# Altium footprint library 2.54-PLCC插槽封装.PcbLib: 85 footprints (part 1 of 6)
Each footprint in its own frame and in the unit in brackets; x right, y up, seen from the top. Pads: shape width x height; smd on the part's side, far side on the other; paste and mask are expansions set on the pad; w line width, h text height; cw(c..) or ccw(c..) is an arc to the next point about the centre after c.
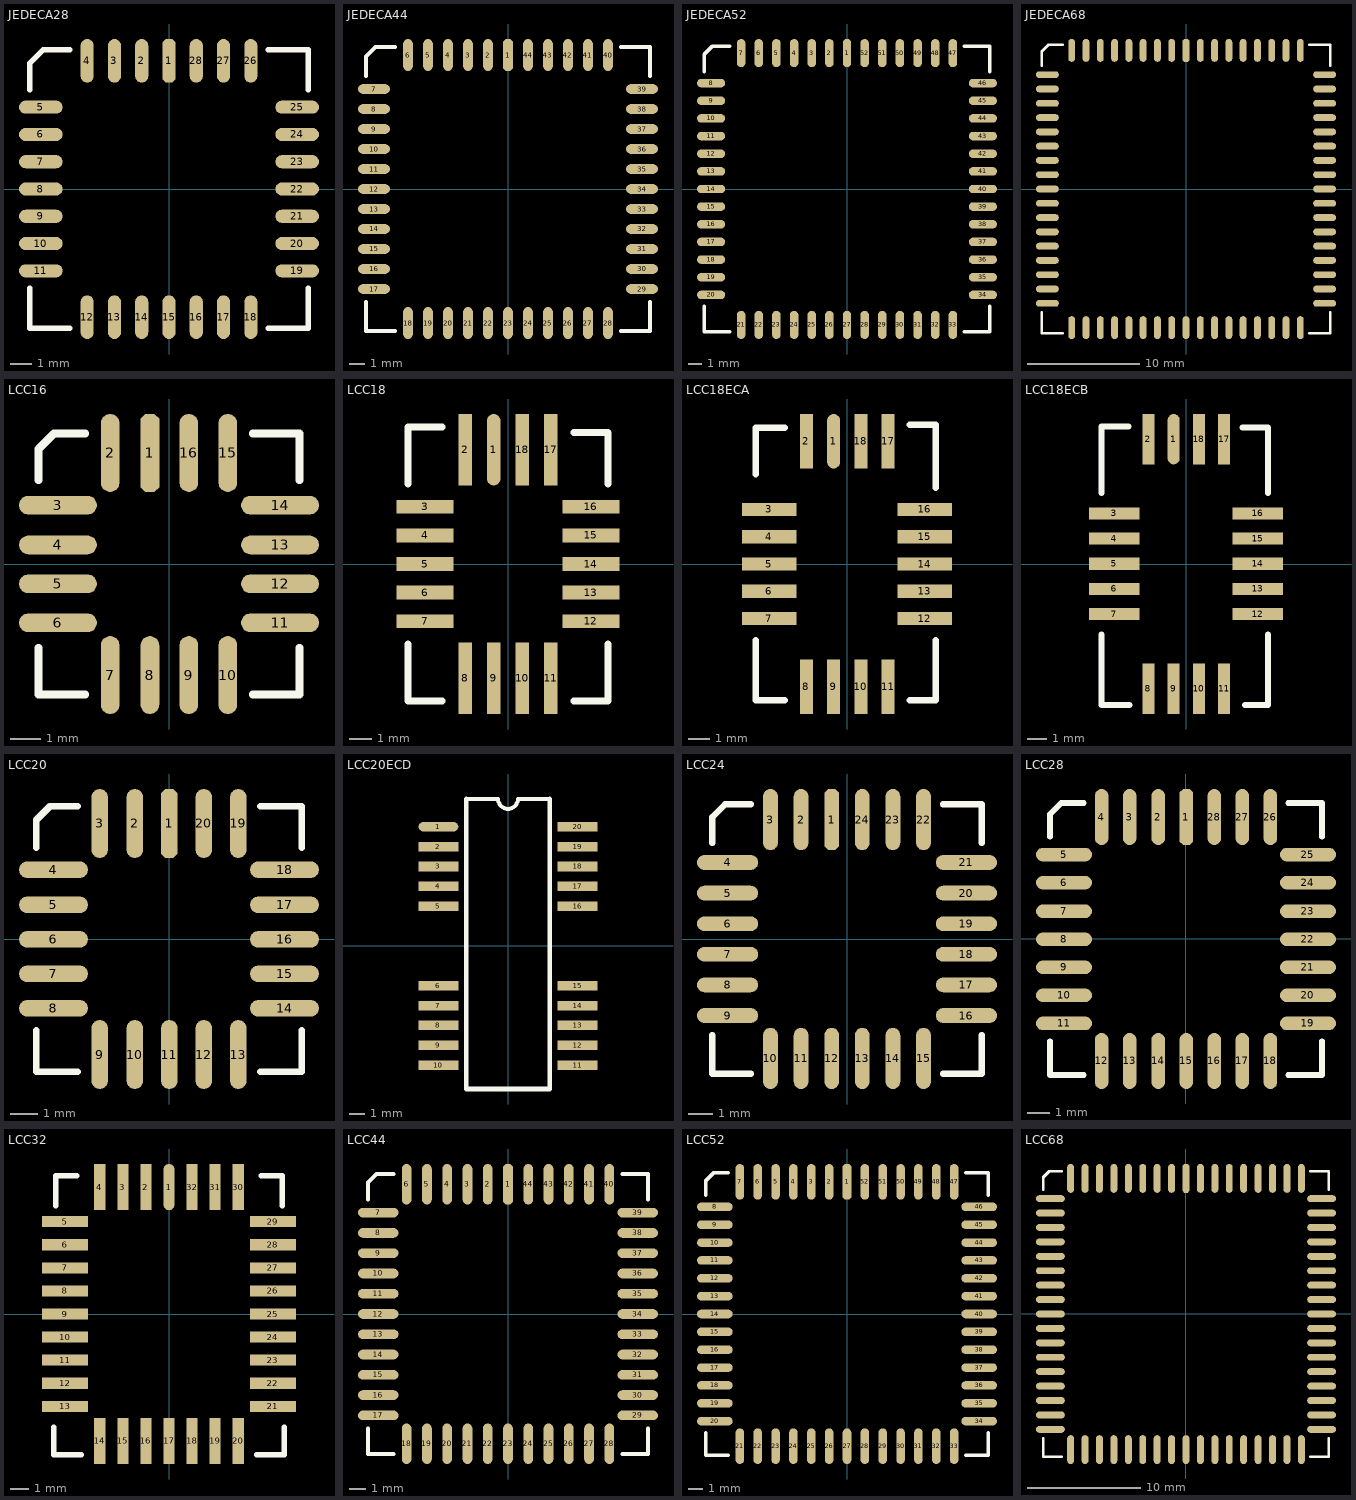
[diagram p0: the footprints below, top view; thin cyan lines are the x and y axes]

## JEDECA28 [mil]
pads (28):
  oct 24x80 smd: 1(0,235)
  oval 24x80 smd: 2(-50,235) 3(-100,235) 4(-150,235) 12(-150,-235) 13(-100,-235) 14(-50,-235) 15(0,-235) 16(50,-235) 17(100,-235) 18(150,-235) 26(150,235) 27(100,235) 28(50,235)
  oval 80x24 smd: 5(-235,150) 6(-235,100) 7(-235,50) 8(-235,0) 9(-235,-50) 10(-235,-100) 11(-235,-150) 19(235,-150) 20(235,-100) 21(235,-50) 22(235,0) 23(235,50) 24(235,100) 25(235,150)
Top Overlay:
  lines w10: -255,-182 -255,-255 -182,-255 ; -255,182 -255,231 -231,255 -182,255 ; 182,-255 255,-255 255,-182 ; 182,255 255,255 255,182

## JEDECA44 [mil]
pads (44):
  oct 24x80 smd: 1(0,335)
  oval 24x80 smd: 2(-50,335) 3(-100,335) 4(-150,335) 5(-200,335) 6(-250,335) 18(-250,-335) 19(-200,-335) 20(-150,-335) 21(-100,-335) 22(-50,-335) 23(0,-335) 24(50,-335) 25(100,-335) 26(150,-335) 27(200,-335) 28(250,-335) 40(250,335) 41(200,335) 42(150,335) 43(100,335) 44(50,335)
  oval 80x24 smd: 7(-335,250) 8(-335,200) 9(-335,150) 10(-335,100) 11(-335,50) 12(-335,0) 13(-335,-50) 14(-335,-100) 15(-335,-150) 16(-335,-200) 17(-335,-250) 29(335,-250) 30(335,-200) 31(335,-150) 32(335,-100) 33(335,-50) 34(335,0) 35(335,50) 36(335,100) 37(335,150) 38(335,200) 39(335,250)
Top Overlay:
  lines w10: -355,-282 -355,-355 -282,-355 ; -355,282 -355,331 -331,355 -282,355 ; 282,-355 355,-355 355,-282 ; 282,355 355,355 355,282

## JEDECA52 [mil]
pads (52):
  oct 24x80 smd: 1(0,385)
  oval 24x80 smd: 2(-50,385) 3(-100,385) 4(-150,385) 5(-200,385) 6(-250,385) 7(-300,385) 21(-300,-385) 22(-250,-385) 23(-200,-385) 24(-150,-385) 25(-100,-385) 26(-50,-385) 27(0,-385) 28(50,-385) 29(100,-385) 30(150,-385) 31(200,-385) 32(250,-385) 33(300,-385) 47(300,385) 48(250,385) 49(200,385) 50(150,385) 51(100,385) 52(50,385)
  oval 80x24 smd: 8(-385,300) 9(-385,250) 10(-385,200) 11(-385,150) 12(-385,100) 13(-385,50) 14(-385,0) 15(-385,-50) 16(-385,-100) 17(-385,-150) 18(-385,-200) 19(-385,-250) 20(-385,-300) 34(385,-300) 35(385,-250) 36(385,-200) 37(385,-150) 38(385,-100) 39(385,-50) 40(385,0) 41(385,50) 42(385,100) 43(385,150) 44(385,200) 45(385,250) 46(385,300)
Top Overlay:
  lines w10: -405,-332 -405,-405 -332,-405 ; -405,332 -405,381 -381,405 -332,405 ; 332,-405 405,-405 405,-332 ; 332,405 405,405 405,332

## JEDECA68 [mil]
pads (68):
  oct 24x80 smd: 1(0,485)
  oval 24x80 smd: 2(-50,485) 3(-100,485) 4(-150,485) 5(-200,485) 6(-250,485) 7(-300,485) 8(-350,485) 9(-400,485) 27(-400,-485) 28(-350,-485) 29(-300,-485) 30(-250,-485) 31(-200,-485) 32(-150,-485) 33(-100,-485) 34(-50,-485) 35(0,-485) 36(50,-485) 37(100,-485) 38(150,-485) 39(200,-485) 40(250,-485) 41(300,-485) 42(350,-485) 43(400,-485) 61(400,485) 62(350,485) 63(300,485) 64(250,485) 65(200,485) 66(150,485) 67(100,485) 68(50,485)
  oval 80x24 smd: 10(-485,400) 11(-485,350) 12(-485,300) 13(-485,250) 14(-485,200) 15(-485,150) 16(-485,100) 17(-485,50) 18(-485,0) 19(-485,-50) 20(-485,-100) 21(-485,-150) 22(-485,-200) 23(-485,-250) 24(-485,-300) 25(-485,-350) 26(-485,-400) 44(485,-400) 45(485,-350) 46(485,-300) 47(485,-250) 48(485,-200) 49(485,-150) 50(485,-100) 51(485,-50) 52(485,0) 53(485,50) 54(485,100) 55(485,150) 56(485,200) 57(485,250) 58(485,300) 59(485,350) 60(485,400)
Top Overlay:
  lines w10: -505,-432 -505,-505 -432,-505 ; -505,432 -505,481 -481,505 -432,505 ; 432,-505 505,-505 505,-432 ; 432,505 505,505 505,432

## LCC16 [mil]
pads (16):
  oct 24x100 smd: 1(-24.5,142.5)
  oval 24x100 smd: 2(-75.5,142.5) 7(-75.5,-142.5) 8(-24.5,-142.5) 9(25.5,-142.5) 10(75.5,-142.5) 15(75.5,142.5) 16(25.5,142.5)
  oval 100x24 smd: 3(-142.5,75.5) 4(-142.5,24.5) 5(-142.5,-25.5) 6(-142.5,-75.5) 11(142.5,-75.5) 12(142.5,-25.5) 13(142.5,24.5) 14(142.5,75.5)
Top Overlay:
  lines w10: -167.5,-107.5 -167.5,-167.5 -107.5,-167.5 ; -167.5,107.5 -167.5,147.5 -147.5,167.5 -107.5,167.5 ; 107.5,-167.5 167.5,-167.5 167.5,-107.5 ; 107.5,167.5 167.5,167.5 167.5,107.5

## LCC18 [mil]
pads (18):
  oval 24x125 smd: 1(-25,200)
  rect 24x125 smd: 2(-75,200) 8(-75,-200) 9(-25,-200) 10(25,-200) 11(75,-200) 17(75,200) 18(25,200)
  rect 100x24 smd: 3(-145,100) 4(-145,50) 5(-145,0) 6(-145,-50) 7(-145,-100) 12(145,-100) 13(145,-50) 14(145,0) 15(145,50) 16(145,100)
Top Overlay:
  lines w12: -175,-140 -175,-240 -115,-240 ; -175,140 -175,240 -115,240 ; 115,-240 175,-240 175,-140 ; 115,230 175,230 175,140

## LCC18ECA [mil]
pads (18):
  oval 24x100 smd: 1(-24.5,225)
  rect 24x100 smd: 2(-74.5,225) 8(-74.5,-225) 9(-24.5,-225) 10(25.5,-225) 11(75.5,-225) 17(75.5,225) 18(25.5,225)
  rect 100x24 smd: 3(-142.5,100) 4(-142.5,50) 5(-142.5,0) 6(-142.5,-50) 7(-142.5,-100) 12(142.5,-100) 13(142.5,-50) 14(142.5,0) 15(142.5,50) 16(142.5,100)
Top Overlay:
  lines w12: -167.5,-140 -167.5,-250 -114.5,-250 ; -167.5,165 -167.5,250 -114.5,250 ; 115.5,-250 162.5,-250 162.5,-140 ; 115.5,255 162.5,255 162.5,140

## LCC18ECB [mil]
pads (18):
  oval 24x100 smd: 1(-24.5,247.5)
  rect 24x100 smd: 2(-74.5,247.5) 8(-74.5,-247.5) 9(-24.5,-247.5) 10(25.5,-247.5) 11(75.5,-247.5) 17(75.5,247.5) 18(25.5,247.5)
  rect 100x24 smd: 3(-142.5,100.5) 4(-142.5,50.5) 5(-142.5,0.5) 6(-142.5,-49.5) 7(-142.5,-99.5) 12(142.5,-99.5) 13(142.5,-49.5) 14(142.5,0.5) 15(142.5,50.5) 16(142.5,100.5)
Top Overlay:
  lines w12: -167.5,-139.5 -167.5,-279.5 -112.5,-279.5 ; -167.5,140.5 -167.5,272.5 -114.5,272.5 ; 112.5,270.5 162.5,270.5 162.5,140.5 ; 117.5,-279.5 162.5,-279.5 162.5,-139.5

## LCC20 [mil]
pads (20):
  oct 24x100 smd: 1(0.5,167.5)
  oval 24x100 smd: 2(-49.5,167.5) 3(-100.5,167.5) 9(-100.5,-167.5) 10(-49.5,-167.5) 11(0.5,-167.5) 12(50.5,-167.5) 13(100.5,-167.5) 19(100.5,167.5) 20(50.5,167.5)
  oval 100x24 smd: 4(-167.5,100.5) 5(-167.5,49.5) 6(-167.5,-0.5) 7(-167.5,-50.5) 8(-167.5,-100.5) 14(167.5,-100.5) 15(167.5,-50.5) 16(167.5,-0.5) 17(167.5,49.5) 18(167.5,100.5)
Top Overlay:
  lines w10: -192.5,-132.5 -192.5,-192.5 -132.5,-192.5 ; -192.5,132.5 -192.5,172.5 -172.5,192.5 -132.5,192.5 ; 132.5,-192.5 192.5,-192.5 192.5,-132.5 ; 132.5,192.5 192.5,192.5 192.5,132.5

## LCC20ECD [mil]
pads (20):
  oval 100x24 smd: 1(-175,300)
  rect 100x24 smd: 2(-175,250) 3(-175,200) 4(-175,150) 5(-175,100) 6(-175,-100) 7(-175,-150) 8(-175,-200) 9(-175,-250) 10(-175,-300) 11(175,-300) 12(175,-250) 13(175,-200) 14(175,-150) 15(175,-100) 16(175,100) 17(175,150) 18(175,200) 19(175,250) 20(175,300)
Top Overlay:
  lines w10: -105,370 -25,370 ccw(c0,370) 25,370 105,370
  lines w12: -105,370 -105,-360 105,-360 105,370

## LCC24 [mil]
pads (24):
  oct 24x100 smd: 1(-25,195)
  oval 24x100 smd: 2(-75,195) 3(-125,195) 10(-125,-195) 11(-75,-195) 12(-25,-195) 13(25,-195) 14(75,-195) 15(125,-195) 22(125,195) 23(75,195) 24(25,195)
  oval 100x24 smd: 4(-195,125) 5(-195,75) 6(-195,25) 7(-195,-25) 8(-195,-75) 9(-195,-125) 16(195,-125) 17(195,-75) 18(195,-25) 19(195,25) 20(195,75) 21(195,125)
Top Overlay:
  lines w10: -220,-157 -220,-220 -157,-220 ; -220,157 -220,199 -199,220 -157,220 ; 157,-220 220,-220 220,-157 ; 157,220 220,220 220,157

## LCC28 [mil]
pads (28):
  oct 24x100 smd: 1(0.5,217.5)
  oval 24x100 smd: 2(-49.5,217.5) 3(-100.5,217.5) 4(-150.5,217.5) 12(-150.5,-217.5) 13(-100.5,-217.5) 14(-49.5,-217.5) 15(0.5,-217.5) 16(50.5,-217.5) 17(100.5,-217.5) 18(150.5,-217.5) 26(150.5,217.5) 27(100.5,217.5) 28(50.5,217.5)
  oval 100x24 smd: 5(-217.5,150.5) 6(-217.5,100.5) 7(-217.5,49.5) 8(-217.5,-0.5) 9(-217.5,-50.5) 10(-217.5,-100.5) 11(-217.5,-150.5) 19(217.5,-150.5) 20(217.5,-100.5) 21(217.5,-50.5) 22(217.5,-0.5) 23(217.5,49.5) 24(217.5,100.5) 25(217.5,150.5)
Top Overlay:
  lines w10: -242.5,-182.5 -242.5,-242.5 -182.5,-242.5 ; -242.5,182.5 -242.5,222.5 -222.5,242.5 -182.5,242.5 ; 182.5,-242.5 242.5,-242.5 242.5,-182.5 ; 182.5,242.5 242.5,242.5 242.5,182.5

## LCC32 [mil]
pads (32):
  oval 24x100 smd: 1(0,275)
  rect 24x100 smd: 2(-50,275) 3(-100,275) 4(-150,275) 14(-150,-275) 15(-100,-275) 16(-50,-275) 17(0,-275) 18(50,-275) 19(100,-275) 20(150,-275) 30(150,275) 31(100,275) 32(50,275)
  rect 100x24 smd: 5(-225,200) 6(-225,150) 7(-225,100) 8(-225,50) 9(-225,0) 10(-225,-50) 11(-225,-100) 12(-225,-150) 13(-225,-200) 21(225,-200) 22(225,-150) 23(225,-100) 24(225,-50) 25(225,0) 26(225,50) 27(225,100) 28(225,150) 29(225,200)
Top Overlay:
  lines w12: -250,-245 -250,-305 -190,-305 ; -245,235 -245,300 -200,300 ; 190,-305 250,-305 250,-245 ; 200,300 245,300 245,235

## LCC44 [mil]
pads (44):
  oct 24x100 smd: 1(0,320)
  oval 24x100 smd: 2(-50,320) 3(-100,320) 4(-150,320) 5(-200,320) 6(-250,320) 18(-250,-320) 19(-200,-320) 20(-150,-320) 21(-100,-320) 22(-50,-320) 23(0,-320) 24(50,-320) 25(100,-320) 26(150,-320) 27(200,-320) 28(250,-320) 40(250,320) 41(200,320) 42(150,320) 43(100,320) 44(50,320)
  oval 100x24 smd: 7(-320,250) 8(-320,200) 9(-320,150) 10(-320,100) 11(-320,50) 12(-320,0) 13(-320,-50) 14(-320,-100) 15(-320,-150) 16(-320,-200) 17(-320,-250) 29(320,-250) 30(320,-200) 31(320,-150) 32(320,-100) 33(320,-50) 34(320,0) 35(320,50) 36(320,100) 37(320,150) 38(320,200) 39(320,250)
Top Overlay:
  lines w10: -345,-282 -345,-345 -282,-345 ; -345,282 -345,324 -324,345 -282,345 ; 282,-345 345,-345 345,-282 ; 282,345 345,345 345,282

## LCC52 [mil]
pads (52):
  oct 24x100 smd: 1(0,370)
  oval 24x100 smd: 2(-50,370) 3(-100,370) 4(-150,370) 5(-200,370) 6(-250,370) 7(-300,370) 21(-300,-370) 22(-250,-370) 23(-200,-370) 24(-150,-370) 25(-100,-370) 26(-50,-370) 27(0,-370) 28(50,-370) 29(100,-370) 30(150,-370) 31(200,-370) 32(250,-370) 33(300,-370) 47(300,370) 48(250,370) 49(200,370) 50(150,370) 51(100,370) 52(50,370)
  oval 100x24 smd: 8(-370,300) 9(-370,250) 10(-370,200) 11(-370,150) 12(-370,100) 13(-370,50) 14(-370,0) 15(-370,-50) 16(-370,-100) 17(-370,-150) 18(-370,-200) 19(-370,-250) 20(-370,-300) 34(370,-300) 35(370,-250) 36(370,-200) 37(370,-150) 38(370,-100) 39(370,-50) 40(370,0) 41(370,50) 42(370,100) 43(370,150) 44(370,200) 45(370,250) 46(370,300)
Top Overlay:
  lines w10: -395,-332 -395,-395 -332,-395 ; -395,332 -395,374 -374,395 -332,395 ; 332,-395 395,-395 395,-332 ; 332,395 395,395 395,332

## LCC68 [mil]
pads (68):
  oct 24x100 smd: 1(0,470)
  oval 24x100 smd: 2(-50,470) 3(-100,470) 4(-150,470) 5(-200,470) 6(-250,470) 7(-300,470) 8(-350,470) 9(-400,470) 27(-400,-470) 28(-350,-470) 29(-300,-470) 30(-250,-470) 31(-200,-470) 32(-150,-470) 33(-100,-470) 34(-50,-470) 35(0,-470) 36(50,-470) 37(100,-470) 38(150,-470) 39(200,-470) 40(250,-470) 41(300,-470) 42(350,-470) 43(400,-470) 61(400,470) 62(350,470) 63(300,470) 64(250,470) 65(200,470) 66(150,470) 67(100,470) 68(50,470)
  oval 100x24 smd: 10(-470,400) 11(-470,350) 12(-470,300) 13(-470,250) 14(-470,200) 15(-470,150) 16(-470,100) 17(-470,50) 18(-470,0) 19(-470,-50) 20(-470,-100) 21(-470,-150) 22(-470,-200) 23(-470,-250) 24(-470,-300) 25(-470,-350) 26(-470,-400) 44(470,-400) 45(470,-350) 46(470,-300) 47(470,-250) 48(470,-200) 49(470,-150) 50(470,-100) 51(470,-50) 52(470,0) 53(470,50) 54(470,100) 55(470,150) 56(470,200) 57(470,250) 58(470,300) 59(470,350) 60(470,400)
Top Overlay:
  lines w10: -495,-432 -495,-495 -432,-495 ; -495,432 -495,474 -474,495 -432,495 ; 432,-495 495,-495 495,-432 ; 432,495 495,495 495,432